# EAGLE library part K64F/K22F(HALF_SHIELD) (library mbed-HDK-misc-Board)
Half Shield for K64F/K22F
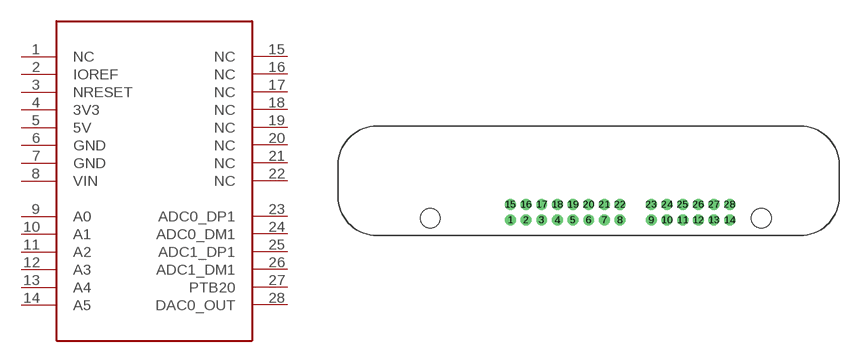
[diagram p8: symbol with the pads of K64F/K22F(HALF_SHIELD); footprint K64F/K22F(HALF_SHIELD)]

Designator prefix BRD

## K64F/K22F(HALF_SHIELD)  [K64F/K22F(HALF_SHIELD)]
1  NC
2  IOREF
3  NRESET
4  3V3
5  5V
6  GND
7  GND
8  VIN
9  A0
10  A1
11  A2
12  A3
13  A4
14  A5
15  NC
16  NC
17  NC
18  NC
19  NC
20  NC
21  NC
22  NC
23  ADC0_DP1
24  ADC0_DM1
25  ADC1_DP1
26  ADC1_DM1
27  PTB20
28  DAC0_OUT

## Footprint K64F/K22F(HALF_SHIELD) (pad centres in mm)
drill 1 pad 1.778: 1 27.94,2.54; 2 30.48,2.54; 3 33.02,2.54; 4 35.56,2.54; 5 38.1,2.54; 6 40.64,2.54; 7 43.18,2.54; 8 45.72,2.54; 9 50.8,2.54; 10 53.34,2.54; 11 55.88,2.54; 12 58.42,2.54; 13 60.96,2.54; 14 63.5,2.54; 15 27.94,5.08; 16 30.48,5.08; 17 33.02,5.08; 18 35.56,5.08; 19 38.1,5.08; 20 40.64,5.08; 21 43.18,5.08; 22 45.72,5.08; 23 50.8,5.08; 24 53.34,5.08; 25 55.88,5.08; 26 58.42,5.08; 27 60.96,5.08; 28 63.5,5.08
hole 3.2 at 14.948,2.819
hole 3.2 at 68.656,2.819